# Altium schematic symbol library GJM1555C1H3R3WB01D.SchLib: 1 symbol
Pins are listed as number, name and electrical type; pins without a type are passive.

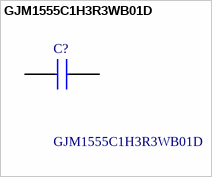
[diagram p0: symbol GJM1555C1H3R3WB01D]

## GJM1555C1H3R3WB01D
designator C?
Capacitor GJM15_0.10 L=1.0mm W=0.5mm T=0.5mm; Manufacturer_Name: Murata Electronics; Geometry.Height: 0.55mm; Mouser Part Number: 81-GJM1555C1H3R3WB1D; Mouser Price/Stock: https://www.mouser.co.uk/ProductDetail/Murata-Electronics/GJM1555C1H3R3WB01D?qs=YLLXL5qGyDt2ejtN1v%252B1AA%3D%3D; Manufacturer_Part_Number: GJM1555C1H3R3WB01D; Datasheet Link: https://psearch.en.murata.com/capacitor/product/GJM1555C1H3R3WB01%23.html
footprint CAPC1005X55N
pins: 1, 2